# Altium schematic symbol library SoC.SchLib: 3 symbols
Pins are listed as number, name and electrical type; pins without a type are passive.

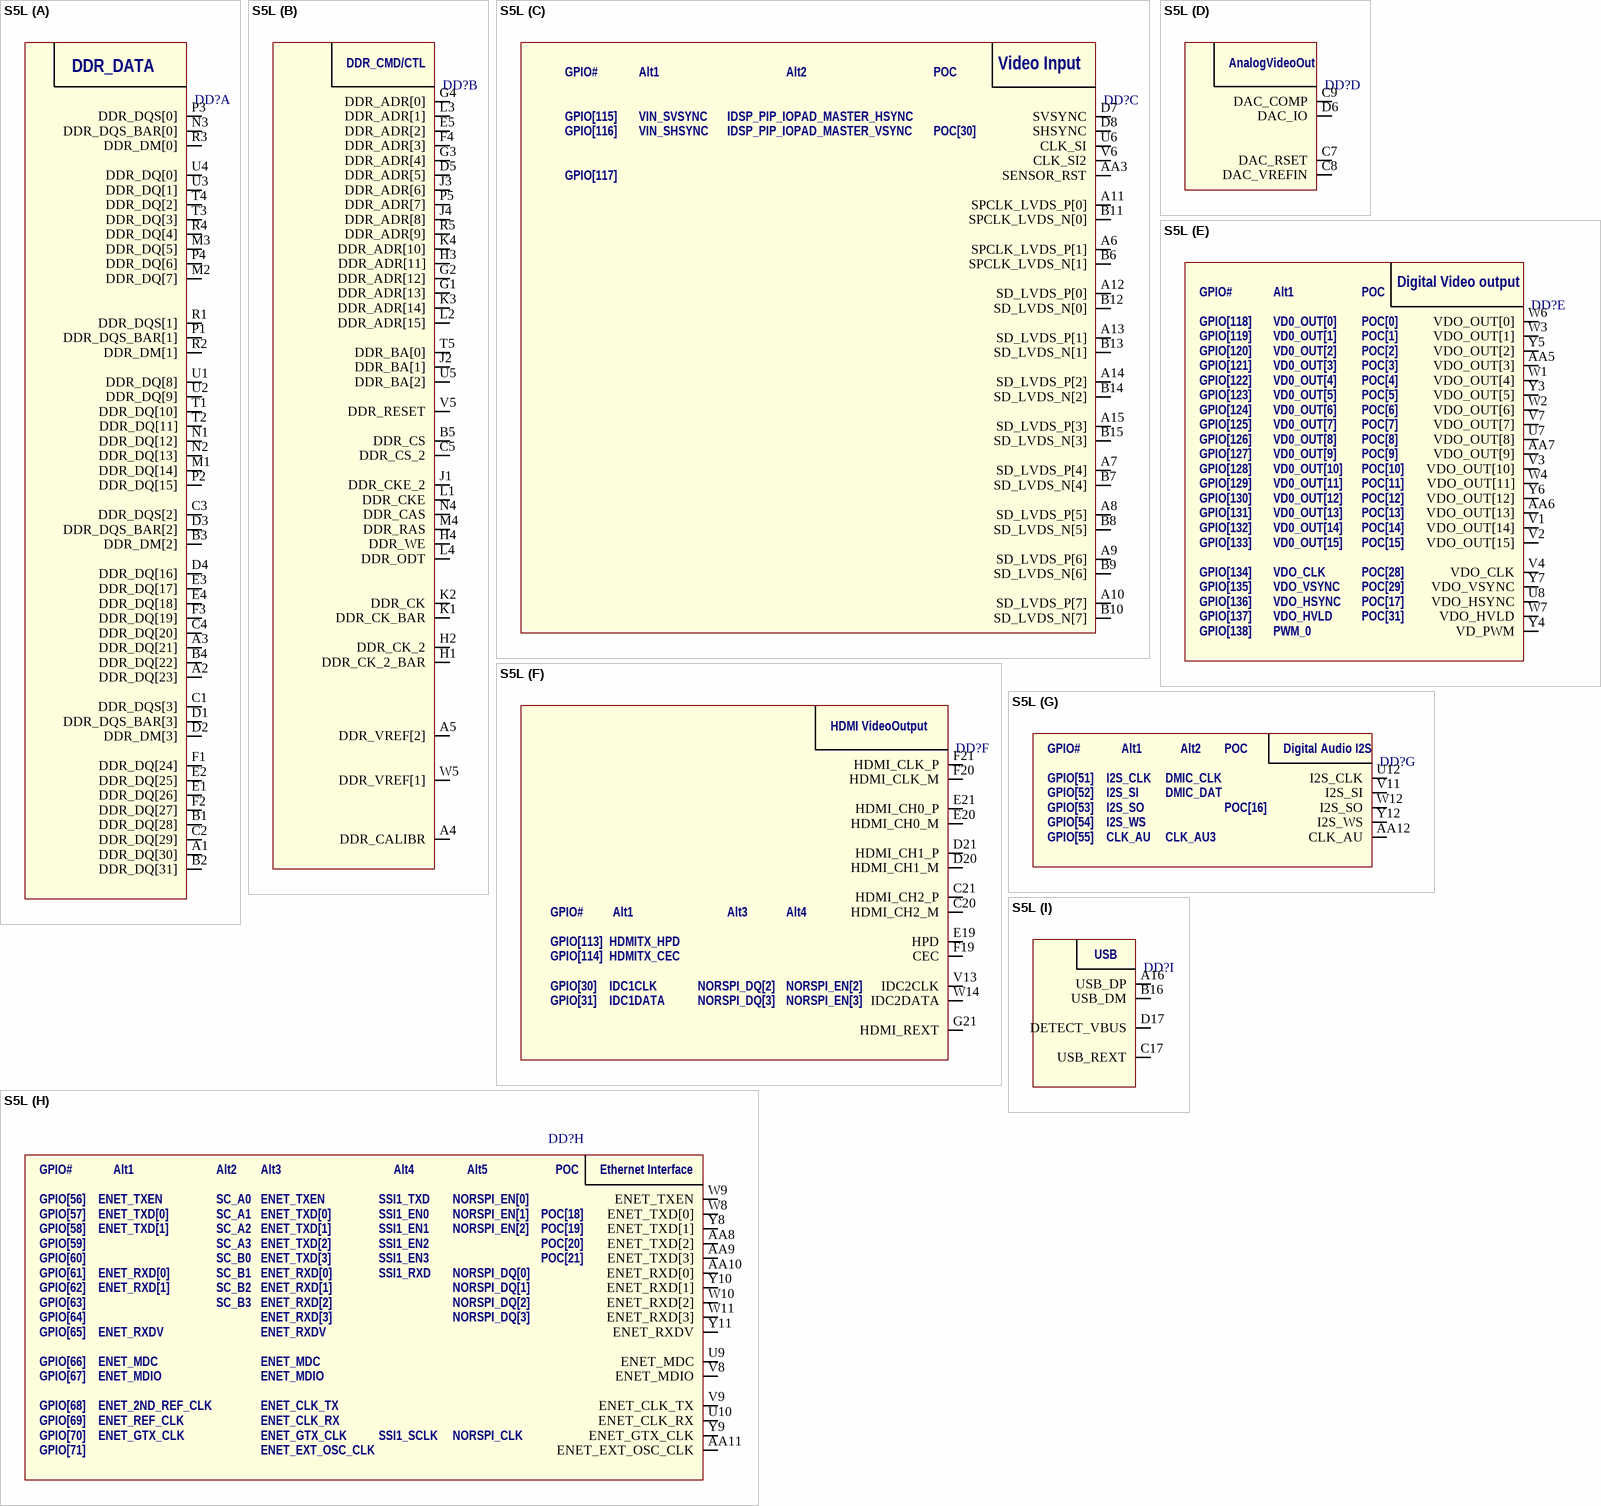
[diagram p0: symbol S5L]

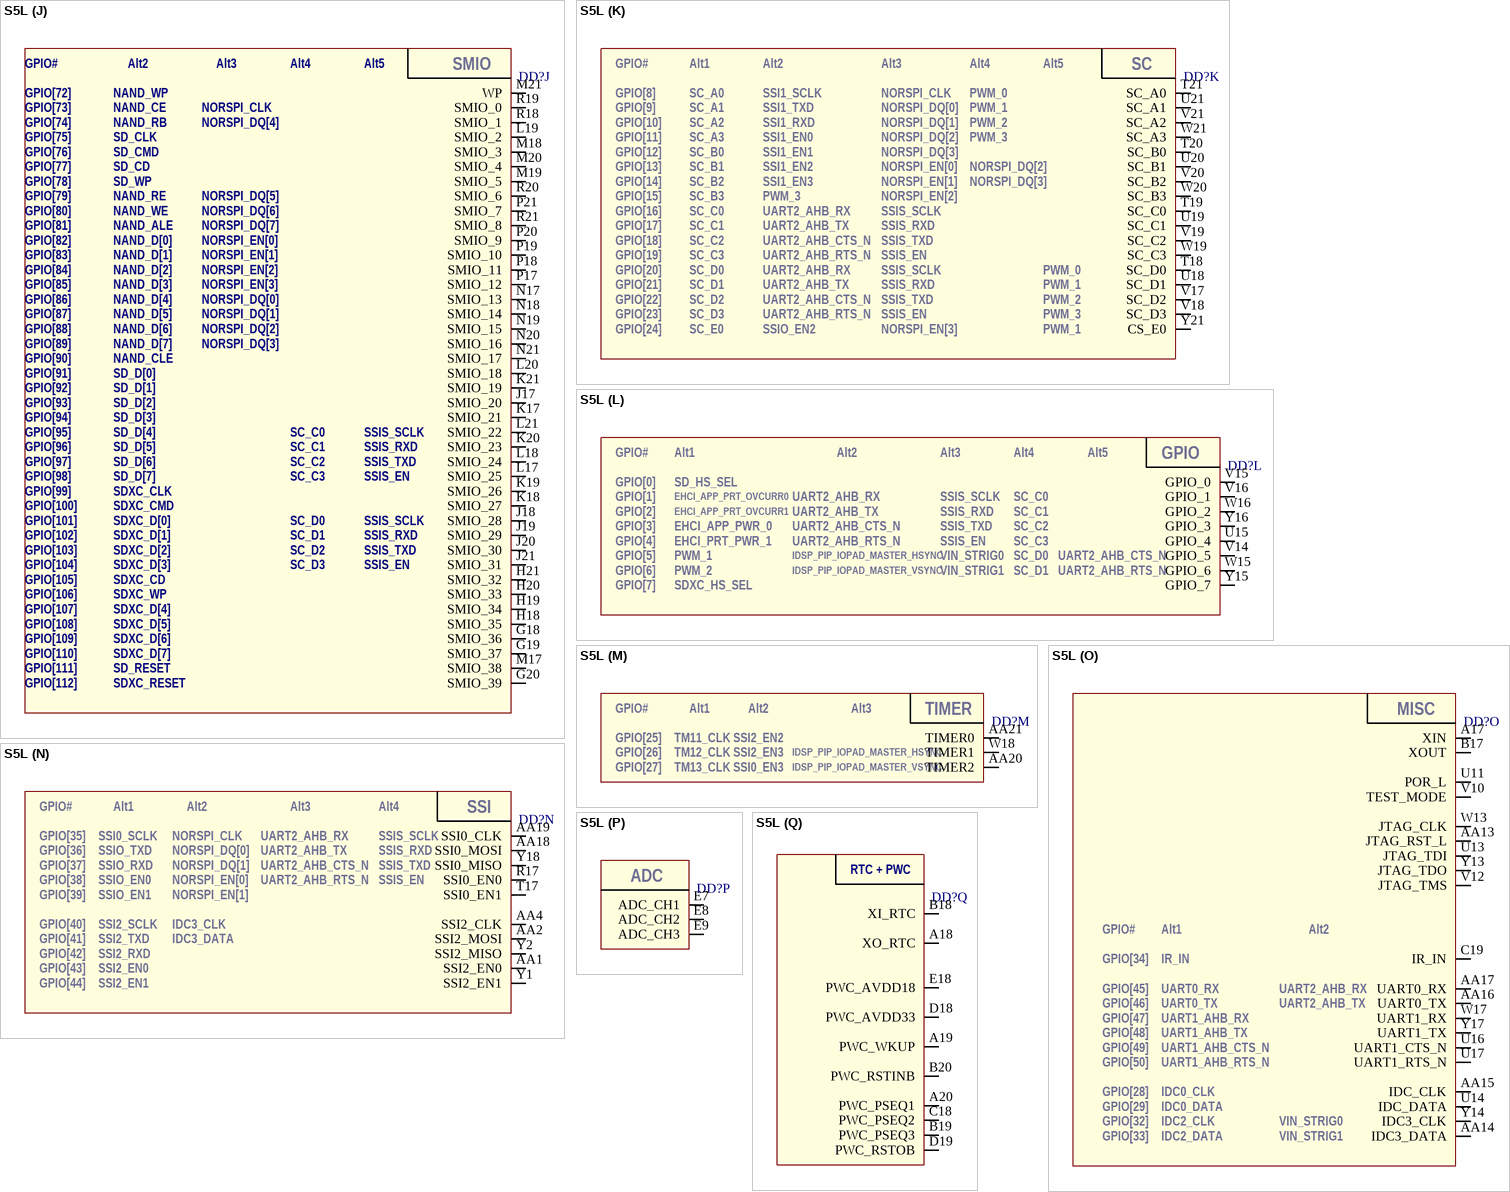
[diagram p1: symbol S5L]

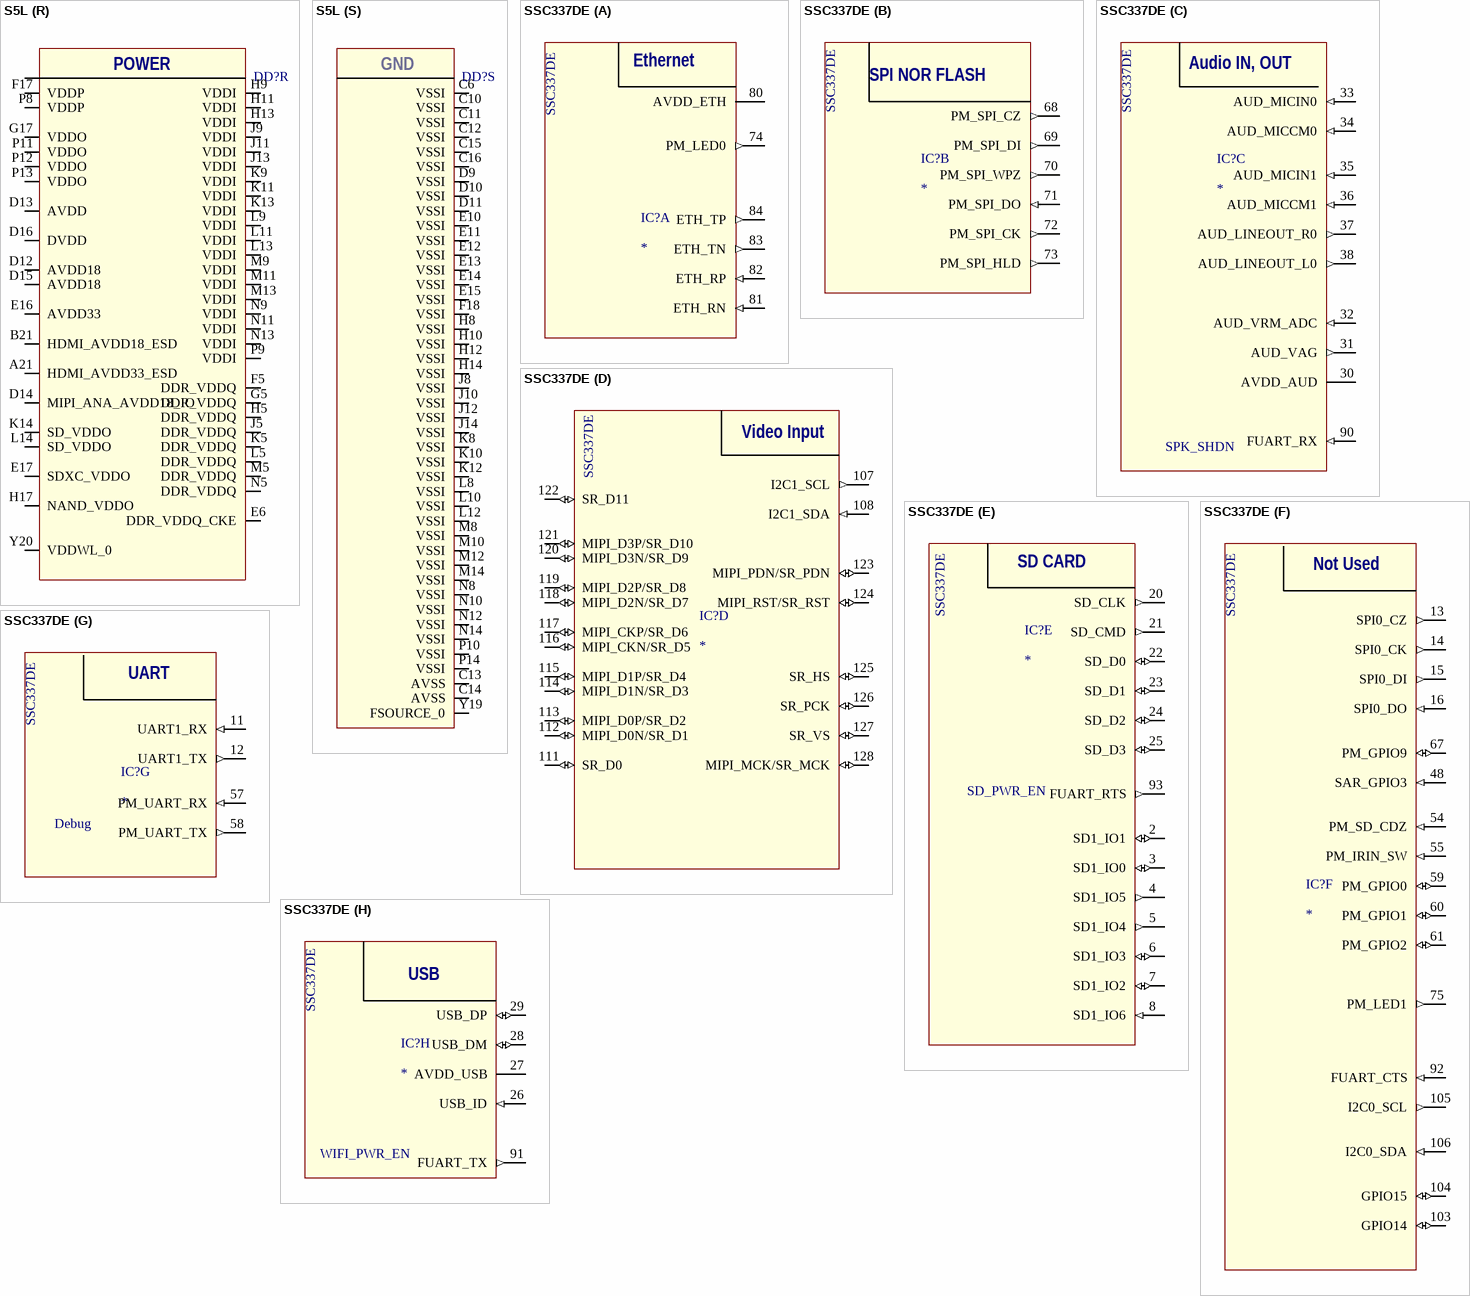
[diagram p2: symbols S5L to SSC337DE]

## S5L
designator DD?
Ambarella SoC S5L
footprint BGA369C65P21X21_1400X1400X130 (BGA, 369-Leads, Body 14,00x14,00mmx1,30mm, Pitch 0,65mm)
part A pins: A1 DDR_DQ[30] "Bi-directional data BUS", A2 DDR_DQ[23] "Bi-directional data BUS", A3 DDR_DQ[21] "Bi-directional data BUS", B1 DDR_DQ[28] "Bi-directional data BUS", B2 DDR_DQ[31] "Bi-directional data BUS", B3 DDR_DM[2] "data write mask", B4 DDR_DQ[22] "Bi-directional data BUS", C1 DDR_DQS[3] "data strobe", C2 DDR_DQ[29] "Bi-directional data BUS", C3 DDR_DQS[2] "data strobe", C4 DDR_DQ[20] "Bi-directional data BUS", D1 DDR_DQS_BAR[3] "data strobe diff pair", D2 DDR_DM[3] "data write mask", D3 DDR_DQS_BAR[2] "data strobe diff pair", D4 DDR_DQ[16] "Bi-directional data BUS", E1 DDR_DQ[26] "Bi-directional data BUS", E2 DDR_DQ[25] "Bi-directional data BUS", E3 DDR_DQ[17] "Bi-directional data BUS", E4 DDR_DQ[18] "Bi-directional data BUS", F1 DDR_DQ[24] "Bi-directional data BUS", F2 DDR_DQ[27] "Bi-directional data BUS", F3 DDR_DQ[19] "Bi-directional data BUS", M1 DDR_DQ[14] "Bi-directional data BUS", M2 DDR_DQ[7] "Bi-directional data BUS", M3 DDR_DQ[5] "Bi-directional data BUS", N1 DDR_DQ[12] "Bi-directional data BUS", N2 DDR_DQ[13] "Bi-directional data BUS", N3 DDR_DQS_BAR[0] "data strobe diff pair", P1 DDR_DQS_BAR[1] "data strobe diff pair", P2 DDR_DQ[15] "Bi-directional data BUS", P3 DDR_DQS[0] "data strobe", P4 DDR_DQ[6] "Bi-directional data BUS", R1 DDR_DQS[1] "data strobe", R2 DDR_DM[1] "data write mask", R3 DDR_DM[0] "data write mask", R4 DDR_DQ[4] "Bi-directional data BUS", T1 DDR_DQ[10] "Bi-directional data BUS", T2 DDR_DQ[11] "Bi-directional data BUS", T3 DDR_DQ[3] "Bi-directional data BUS", T4 DDR_DQ[2] "Bi-directional data BUS", U1 DDR_DQ[8] "Bi-directional data BUS", U2 DDR_DQ[9] "Bi-directional data BUS", U3 DDR_DQ[1] "Bi-directional data BUS", U4 DDR_DQ[0] "Bi-directional data BUS"
part B pins: A4 DDR_CALIBR "ZQ calibration", A5 DDR_VREF[2] "refrence voltage", B5 DDR_CS "chip select for die2", C5 DDR_CS_2 "chip select for die 2", D5 DDR_ADR[5] "Addres for row (RAS)and column (CAS) strobe", E5 DDR_ADR[2] "Addres for row (RAS)and column (CAS) strobe", F4 DDR_ADR[3] "Addres for row (RAS)and column (CAS) strobe", G1 DDR_ADR[13] "Addres for row (RAS)and column (CAS) strobe", G2 DDR_ADR[12] "Addres for row (RAS)and column (CAS) strobe", G3 DDR_ADR[4] "Addres for row (RAS)and column (CAS) strobe", G4 DDR_ADR[0] "Addres for row (RAS)and column (CAS) strobe", H1 DDR_CK_2_BAR "DDR_Ck2 and DDR_Ck_BAR2 are diff clock", H2 DDR_CK_2 "DRAM clock per SDRAM", H3 DDR_ADR[11] "Addres for row (RAS)and column (CAS) strobe", H4 DDR_WE "Write enable", J1 DDR_CKE_2 "clock enable for 2nd die", J2 DDR_BA[1] "Bank address", J3 DDR_ADR[6] "Addres for row (RAS)and column (CAS) strobe", J4 DDR_ADR[8] "Addres for row (RAS)and column (CAS) strobe", K1 DDR_CK_BAR "DDR_CK and DDR_CK_BAR are diff clock", K2 DDR_CK "DRAM clock per SDRAM", K3 DDR_ADR[14] "Addres for row (RAS)and column (CAS) strobe", K4 DDR_ADR[10] "Addres for row (RAS)and column (CAS) strobe", L1 DDR_CKE "clock enable", L2 DDR_ADR[15] "Addres for row (RAS)and column (CAS) strobe", L3 DDR_ADR[1] "Addres for row (RAS)and column (CAS) strobe", L4 DDR_ODT "SDRAM on-die termination control sign", M4 DDR_RAS "Row addresstrobe", N4 DDR_CAS "column addres strobe strobe", P5 DDR_ADR[7] "Addres for row (RAS)and column (CAS) strobe", R5 DDR_ADR[9] "Addres for row (RAS)and column (CAS) strobe", T5 DDR_BA[0] "Bank address", U5 DDR_BA[2] "Bank address", V5 DDR_RESET "DDR3 Async. reset", W5 DDR_VREF[1] "refrence voltage"
part C pins: A6 SPCLK_LVDS_P[1] "Sensor pixel clock", A7 SD_LVDS_P[4] "sensor data", A8 SD_LVDS_P[5] "sensor data", A9 SD_LVDS_P[6] "sensor data", A10 SD_LVDS_P[7] "sensor data", A11 SPCLK_LVDS_P[0] "Sensor pixel clock", A12 SD_LVDS_P[0] "sensor data", A13 SD_LVDS_P[1] "sensor data", A14 SD_LVDS_P[2] "sensor data", A15 SD_LVDS_P[3] "sensor data", AA3 SENSOR_RST, B6 SPCLK_LVDS_N[1] "Sensor pixel clock", B7 SD_LVDS_N[4] "sensor data", B8 SD_LVDS_N[5] "sensor data", B9 SD_LVDS_N[6] "sensor data", B10 SD_LVDS_N[7] "sensor data", B11 SPCLK_LVDS_N[0] "Sensor pixel clock", B12 SD_LVDS_N[0] "sensor data", B13 SD_LVDS_N[1] "sensor data", B14 SD_LVDS_N[2] "sensor data", B15 SD_LVDS_N[3] "sensor data", D7 SVSYNC "V-sync", D8 SHSYNC "H_sync", U6 CLK_SI "Sensor master clock output", V6 CLK_SI2 "Sensor master clock output"
part D pins: C7 DAC_RSET "Refrence resistor", C8 DAC_VREFIN "Voltage refrence input", C9 DAC_COMP "Compensation pin", D6 DAC_IO "Composite CVBS output"
part E pins: AA5 VDO_OUT[3] "Video ouput data", AA6 VDO_OUT[13] "Video ouput data", AA7 VDO_OUT[9] "Video ouput data", U7 VDO_OUT[8] "Video ouput data", U8 VDO_HSYNC "H sync signal", V1 VDO_OUT[14] "Video ouput data", V2 VDO_OUT[15] "Video ouput data", V3 VDO_OUT[10] "Video ouput data", V4 VDO_CLK "Video Clock output", V7 VDO_OUT[7] "Video ouput data", W1 VDO_OUT[4] "Video ouput data", W2 VDO_OUT[6] "Video ouput data", W3 VDO_OUT[1] "Video ouput data", W4 VDO_OUT[11] "Video ouput data", W6 VDO_OUT[0] "Video ouput data", W7 VDO_HVLD "video output valid signal", Y3 VDO_OUT[5] "Video ouput data", Y4 VD_PWM, Y5 VDO_OUT[2] "Video ouput data", Y6 VDO_OUT[12] "Video ouput data", Y7 VDO_VSYNC "V sync signal"
part F pins: C20 HDMI_CH2_M "data output(open drain)", C21 HDMI_CH2_P "data output(open drain)", D20 HDMI_CH1_M "data output(open drain)", D21 HDMI_CH1_P "data output(open drain)", E19 HPD "Hot plug detect", E20 HDMI_CH0_M "data output(open drain)", E21 HDMI_CH0_P "data output(open drain)", F19 CEC "Consumer electronics Control pin", F20 HDMI_CLK_M "data clock", F21 HDMI_CLK_P "data clock", G21 HDMI_REXT "Refrence resistor", V13 IDC2CLK "HDMI analog power", W14 IDC2DATA "HDMI analog power"
part G pins: AA12 CLK_AU "Master clock", U12 I2S_CLK "I2S bit clock", V11 I2S_SI "I2S serial data in", W12 I2S_SO "I2S serial data out", Y12 I2S_WS "I2S word select"
part H pins: AA8 ENET_TXD[2] "Transmit data", AA9 ENET_TXD[3] "Transmit data", AA10 ENET_RXD[0] "Recive data", AA11 ENET_EXT_OSC_CLK "Ethernet external osc clock", U9 ENET_MDC "MII Clock", U10 ENET_CLK_RX "Refrence clock", V8 ENET_MDIO "MII data bus", V9 ENET_CLK_TX "Transmit clock", W8 ENET_TXD[0] "Transmit data", W9 ENET_TXEN, W10 ENET_RXD[2] "Recive data", W11 ENET_RXD[3] "Recive data", Y8 ENET_TXD[1] "Transmit data", Y9 ENET_GTX_CLK "Ethernet clock", Y10 ENET_RXD[1] "Recive data", Y11 ENET_RXDV "Recive data"
part I pins: A16 USB_DP "USB data", B16 USB_DM "USB data", C17 USB_REXT "USB refrence resistor", D17 DETECT_VBUS "USB slave bus detect"
part J pins: G18 SMIO_36, G19 SMIO_37, G20 SMIO_39, H18 SMIO_35, H19 SMIO_34, H20 SMIO_33, H21 SMIO_32, J17 SMIO_20, J18 SMIO_28, J19 SMIO_29, J20 SMIO_30, J21 SMIO_31, K17 SMIO_21, K18 SMIO_27, K19 SMIO_26, K20 SMIO_23, K21 SMIO_19, L17 SMIO_25, L18 SMIO_24, L19 SMIO_2 "SD0 clock", L20 SMIO_18, L21 SMIO_22, M17 SMIO_38, M18 SMIO_3 "SD0 command", M19 SMIO_5 "SD0 write protect", M20 SMIO_4 "SD0 card detect", M21 WP, N17 SMIO_13 "NAND data", N18 SMIO_14 "NAND data", N19 SMIO_15 "NAND data", N20 SMIO_16 "NAND data", N21 SMIO_17 "NAND cmd latch enable", P17 SMIO_12 "NAND data", P18 SMIO_11 "NAND data", P19 SMIO_10 "NAND data", P20 SMIO_9 "NAND data", P21 SMIO_7 "NAND write enable", R18 SMIO_1 "NAND ready", R19 SMIO_0 "NAND chip enable", R20 SMIO_6 "NAND read enable", R21 SMIO_8 "NAND address latch enable"
part K pins: T18 SC_D0, T19 SC_C0, T20 SC_B0, T21 SC_A0, U18 SC_D1, U19 SC_C1, U20 SC_B1, U21 SC_A1, V17 SC_D2, V18 SC_D3, V19 SC_C2, V20 SC_B2, V21 SC_A2, W19 SC_C3, W20 SC_B3, W21 SC_A3, Y21 CS_E0
part L pins: U15 GPIO_4, V14 GPIO_5, V15 GPIO_0, V16 GPIO_1, W15 GPIO_6, W16 GPIO_2, Y15 GPIO_7, Y16 GPIO_3
part M pins: AA20 TIMER2, AA21 TIMER0, W18 TIMER1
part N pins: AA1 SSI2_EN0, AA2 SSI2_MOSI, AA4 SSI2_CLK, AA18 SSI0_MOSI, AA19 SSI0_CLK, R17 SSI0_EN0, T17 SSI0_EN1, Y1 SSI2_EN1, Y2 SSI2_MISO, Y18 SSI0_MISO
part O pins: A17 XIN, AA13 JTAG_RST_L, AA14 IDC3_DATA, AA15 IDC_CLK, AA16 UART0_TX, AA17 UART0_RX, B17 XOUT, C19 IR_IN, U11 POR_L, U13 JTAG_TDI, U14 IDC_DATA, U16 UART1_CTS_N, U17 UART1_RTS_N, V10 TEST_MODE, V12 JTAG_TMS, W13 JTAG_CLK, W17 UART1_RX, Y13 JTAG_TDO, Y14 IDC3_CLK, Y17 UART1_TX
part P pins: E7 ADC_CH1, E8 ADC_CH2, E9 ADC_CH3
part Q pins: A18 XO_RTC, A19 PWC_WKUP, A20 PWC_PSEQ1, B18 XI_RTC, B19 PWC_PSEQ3, B20 PWC_RSTINB, C18 PWC_PSEQ2, D18 PWC_AVDD33, D19 PWC_RSTOB, E18 PWC_AVDD18
part R pins: A21 HDMI_AVDD33_ESD, B21 HDMI_AVDD18_ESD, D12 AVDD18, D13 AVDD, D14 MIPI_ANA_AVDD18_IO, D15 AVDD18, D16 DVDD, E6 DDR_VDDQ_CKE (power) "power for DDR_CKE and DDR_RESET pin", E16 AVDD33, E17 SDXC_VDDO, F5 DDR_VDDQ (power) "DDR digital I/O powersyplply", F17 VDDP, G5 DDR_VDDQ (power) "DDR digital I/O powersyplply", G17 VDDO, H5 DDR_VDDQ (power) "DDR digital I/O powersyplply", H9 VDDI, H11 VDDI, H13 VDDI, H17 NAND_VDDO, J5 DDR_VDDQ (power) "DDR digital I/O powersyplply", J9 VDDI, J11 VDDI, J13 VDDI, K5 DDR_VDDQ (power) "DDR digital I/O powersyplply", K9 VDDI, K11 VDDI, K13 VDDI, K14 SD_VDDO, L5 DDR_VDDQ (power) "DDR digital I/O powersyplply", L9 VDDI, L11 VDDI, L13 VDDI, L14 SD_VDDO, M5 DDR_VDDQ (power) "DDR digital I/O powersyplply", M9 VDDI, M11 VDDI, M13 VDDI, N5 DDR_VDDQ (power) "DDR digital I/O powersyplply", N9 VDDI, N11 VDDI, N13 VDDI, P8 VDDP, P9 VDDI, P11 VDDO, P12 VDDO, P13 VDDO, Y20 VDDWL_0
part S pins: C6 VSSI "1", C10 VSSI "2", C11 VSSI "3", C12 VSSI "4", C13 AVSS "41", C14 AVSS "42", C15 VSSI "5", C16 VSSI "6", D9 VSSI "7", D10 VSSI "8", D11 VSSI "9", E10 VSSI "10", E11 VSSI "11", E12 VSSI "12", E13 VSSI "13", E14 VSSI "14", E15 VSSI "15", F18 VSSI "16", H8 VSSI "17", H10 VSSI "18", H12 VSSI "19", H14 VSSI "20", J8 VSSI "21", J10 VSSI "22", J12 VSSI "23", J14 VSSI "24", K8 VSSI "25", K10 VSSI "26", K12 VSSI "27", L8 VSSI "28", L10 VSSI "29", L12 VSSI "30", M8 VSSI "31", M10 VSSI "32", M12 VSSI "33", M14 VSSI "34", N8 VSSI "35", N10 VSSI "36", N12 VSSI "37", N14 VSSI "38", P10 VSSI "39", P14 VSSI "40", Y19 FSOURCE_0 "43"
part A text: DDR_DATA
part B text: DDR_CMD/CTL
part C text: Video Input; GPIO#; Alt1; Alt2; POC; GPIO[115]; VIN_SVSYNC; IDSP_PIP_IOPAD_MASTER_HSYNC; GPIO[116]; VIN_SHSYNC; IDSP_PIP_IOPAD_MASTER_VSYNC; POC[30]; GPIO[117]
part D text: AnalogVideoOut
part E text: GPIO#; Alt1; POC; Digital Video output; GPIO[118]; VD0_OUT[0]; POC[0]; GPIO[119]; VD0_OUT[1]; POC[1]; GPIO[120]; VD0_OUT[2]; POC[2]; GPIO[121]; VD0_OUT[3]; POC[3]; GPIO[122]; VD0_OUT[4]; POC[4]; GPIO[123]; VD0_OUT[5]; POC[5]; GPIO[124]; VD0_OUT[6]; POC[6]; GPIO[125]; VD0_OUT[7]; POC[7]; GPIO[126]; VD0_OUT[8]; POC[8]; GPIO[127]; VD0_OUT[9]; POC[9]; GPIO[128]; VD0_OUT[10]; POC[10]; GPIO[129]; VD0_OUT[11]; POC[11]; GPIO[130]; VD0_OUT[12]; POC[12]; GPIO[131]; VD0_OUT[13]; POC[13]; GPIO[132]; VD0_OUT[14]; POC[14]; GPIO[133]; VD0_OUT[15]; POC[15]; GPIO[134]; POC[28]; GPIO[135]; POC[29]; GPIO[136]; POC[17]; GPIO[137]; POC[31]; GPIO[138]; PWM_0
part F text: HDMI VideoOutput; GPIO#; Alt1; Alt3; Alt4; GPIO[113]; HDMITX_HPD; GPIO[114]; HDMITX_CEC; GPIO[30]; IDC1CLK; NORSPI_DQ[2]; NORSPI_EN[2]; GPIO[31]; IDC1DATA; NORSPI_DQ[3]; NORSPI_EN[3]
part G text: GPIO#; Alt1; Alt2; POC; Digital Audio I2S; GPIO[51]; DMIC_CLK; GPIO[52]; DMIC_DAT; GPIO[53]; POC[16]; GPIO[54]; GPIO[55]; CLK_AU3
part H text: GPIO#; Alt1; Alt2; Alt3; Alt4; Alt5; POC; Ethernet Interface; GPIO[56]; SSI1_TXD; NORSPI_EN[0]; GPIO[57]; SSI1_EN0; NORSPI_EN[1]; POC[18]; GPIO[58]; SSI1_EN1; NORSPI_EN[2]; POC[19]; GPIO[59]; SSI1_EN2; POC[20]; GPIO[60]; SSI1_EN3; POC[21]; GPIO[61]; SSI1_RXD; NORSPI_DQ[0]; GPIO[62]; NORSPI_DQ[1]; GPIO[63]; NORSPI_DQ[2]; GPIO[64]; NORSPI_DQ[3]; GPIO[65]; GPIO[66]; GPIO[67]; GPIO[68]; ENET_2ND_REF_CLK; GPIO[69]; ENET_REF_CLK; GPIO[70]; SSI1_SCLK; NORSPI_CLK; GPIO[71]
part I text: USB
part J text: GPIO#; Alt2; Alt3; Alt4; Alt5; SMIO; GPIO[72]; NAND_WP; GPIO[73]; NAND_CE; NORSPI_CLK; GPIO[74]; NAND_RB; NORSPI_DQ[4]; GPIO[75]; SD_CLK; GPIO[76]; SD_CMD; GPIO[77]; SD_CD; GPIO[78]; SD_WP; GPIO[79]; NAND_RE; NORSPI_DQ[5]; GPIO[80]; NAND_WE; NORSPI_DQ[6]; GPIO[81]; NAND_ALE; NORSPI_DQ[7]; GPIO[82]; NAND_D[0]; NORSPI_EN[0]; GPIO[83]; NAND_D[1]; NORSPI_EN[1]; GPIO[84]; NAND_D[2]; NORSPI_EN[2]; GPIO[85]; NAND_D[3]; NORSPI_EN[3]; GPIO[86]; NAND_D[4]; NORSPI_DQ[0]; GPIO[87]; NAND_D[5]; NORSPI_DQ[1]; GPIO[88]; NAND_D[6]; NORSPI_DQ[2]; GPIO[89]; NAND_D[7]; NORSPI_DQ[3]; GPIO[90]; NAND_CLE; GPIO[91]; SD_D[0]; GPIO[92]; SD_D[1]; GPIO[93]; SD_D[2]; GPIO[94]; SD_D[3]; GPIO[95]; SD_D[4]; SSIS_SCLK; GPIO[96]; SD_D[5]; SSIS_RXD; GPIO[97]; SD_D[6]; SSIS_TXD; GPIO[98]; SD_D[7]; SSIS_EN; GPIO[99]; SDXC_CLK; GPIO[100]; SDXC_CMD; GPIO[101]; SDXC_D[0]; GPIO[102]; SDXC_D[1]; GPIO[103]; SDXC_D[2]; GPIO[104]; SDXC_D[3]; GPIO[105]; SDXC_CD; GPIO[106]; SDXC_WP; GPIO[107]; SDXC_D[4]; GPIO[108]; SDXC_D[5]; GPIO[109]; SDXC_D[6]; GPIO[110]; SDXC_D[7]; GPIO[111]; SD_RESET; GPIO[112]; SDXC_RESET
part K text: GPIO#; Alt1; Alt2; Alt3; Alt4; Alt5; SC; GPIO[8]; SSI1_SCLK; NORSPI_CLK; PWM_0; GPIO[9]; SSI1_TXD; NORSPI_DQ[0]; PWM_1; GPIO[10]; SSI1_RXD; NORSPI_DQ[1]; PWM_2; GPIO[11]; SSI1_EN0; NORSPI_DQ[2]; PWM_3; GPIO[12]; SSI1_EN1; NORSPI_DQ[3]; GPIO[13]; SSI1_EN2; NORSPI_EN[0]; GPIO[14]; SSI1_EN3; NORSPI_EN[1]; GPIO[15]; NORSPI_EN[2]; GPIO[16]; UART2_AHB_RX; SSIS_SCLK; GPIO[17]; UART2_AHB_TX; SSIS_RXD; GPIO[18]; UART2_AHB_CTS_N; SSIS_TXD; GPIO[19]; UART2_AHB_RTS_N; SSIS_EN; GPIO[20]; GPIO[21]; GPIO[22]; GPIO[23]; GPIO[24]; SC_E0; SSIO_EN2; NORSPI_EN[3]
part L text: GPIO#; Alt1; Alt2; Alt3; Alt4; Alt5; GPIO; GPIO[0]; SD_HS_SEL; GPIO[1]; EHCI_APP_PRT_OVCURR0; UART2_AHB_RX; SSIS_SCLK; GPIO[2]; EHCI_APP_PRT_OVCURR1; UART2_AHB_TX; SSIS_RXD; GPIO[3]; EHCI_APP_PWR_0; UART2_AHB_CTS_N; SSIS_TXD; GPIO[4]; EHCI_PRT_PWR_1; UART2_AHB_RTS_N; SSIS_EN; GPIO[5]; PWM_1; IDSP_PIP_IOPAD_MASTER_HSYNC; VIN_STRIG0; GPIO[6]; PWM_2; IDSP_PIP_IOPAD_MASTER_VSYNC; VIN_STRIG1; GPIO[7]; SDXC_HS_SEL
part M text: GPIO#; Alt1; Alt2; Alt3; TIMER; GPIO[25]; TM11_CLK; SSI2_EN2; GPIO[26]; TM12_CLK; SSI2_EN3; IDSP_PIP_IOPAD_MASTER_HSYNC; GPIO[27]; TM13_CLK; SSI0_EN3; IDSP_PIP_IOPAD_MASTER_VSYNC
part N text: GPIO#; Alt1; Alt2; Alt3; Alt4; SSI; GPIO[35]; SSI0_SCLK; NORSPI_CLK; UART2_AHB_RX; SSIS_SCLK; GPIO[36]; SSIO_TXD; NORSPI_DQ[0]; UART2_AHB_TX; SSIS_RXD; GPIO[37]; SSIO_RXD; NORSPI_DQ[1]; UART2_AHB_CTS_N; SSIS_TXD; GPIO[38]; SSIO_EN0; NORSPI_EN[0]; UART2_AHB_RTS_N; SSIS_EN; GPIO[39]; SSIO_EN1; NORSPI_EN[1]; GPIO[40]; SSI2_SCLK; GPIO[41]; SSI2_TXD; GPIO[42]; SSI2_RXD; GPIO[43]; GPIO[44]
part O text: MISC; GPIO#; Alt1; Alt2; GPIO[34]; GPIO[45]; UART2_AHB_RX; GPIO[46]; UART2_AHB_TX; GPIO[47]; UART1_AHB_RX; GPIO[48]; UART1_AHB_TX; GPIO[49]; UART1_AHB_CTS_N; GPIO[50]; UART1_AHB_RTS_N; GPIO[28]; IDC0_CLK; GPIO[29]; IDC0_DATA; GPIO[32]; IDC2_CLK; VIN_STRIG0; GPIO[33]; IDC2_DATA; VIN_STRIG1
part P text: ADC
part Q text: RTC + PWC
part R text: POWER
part S text: GND

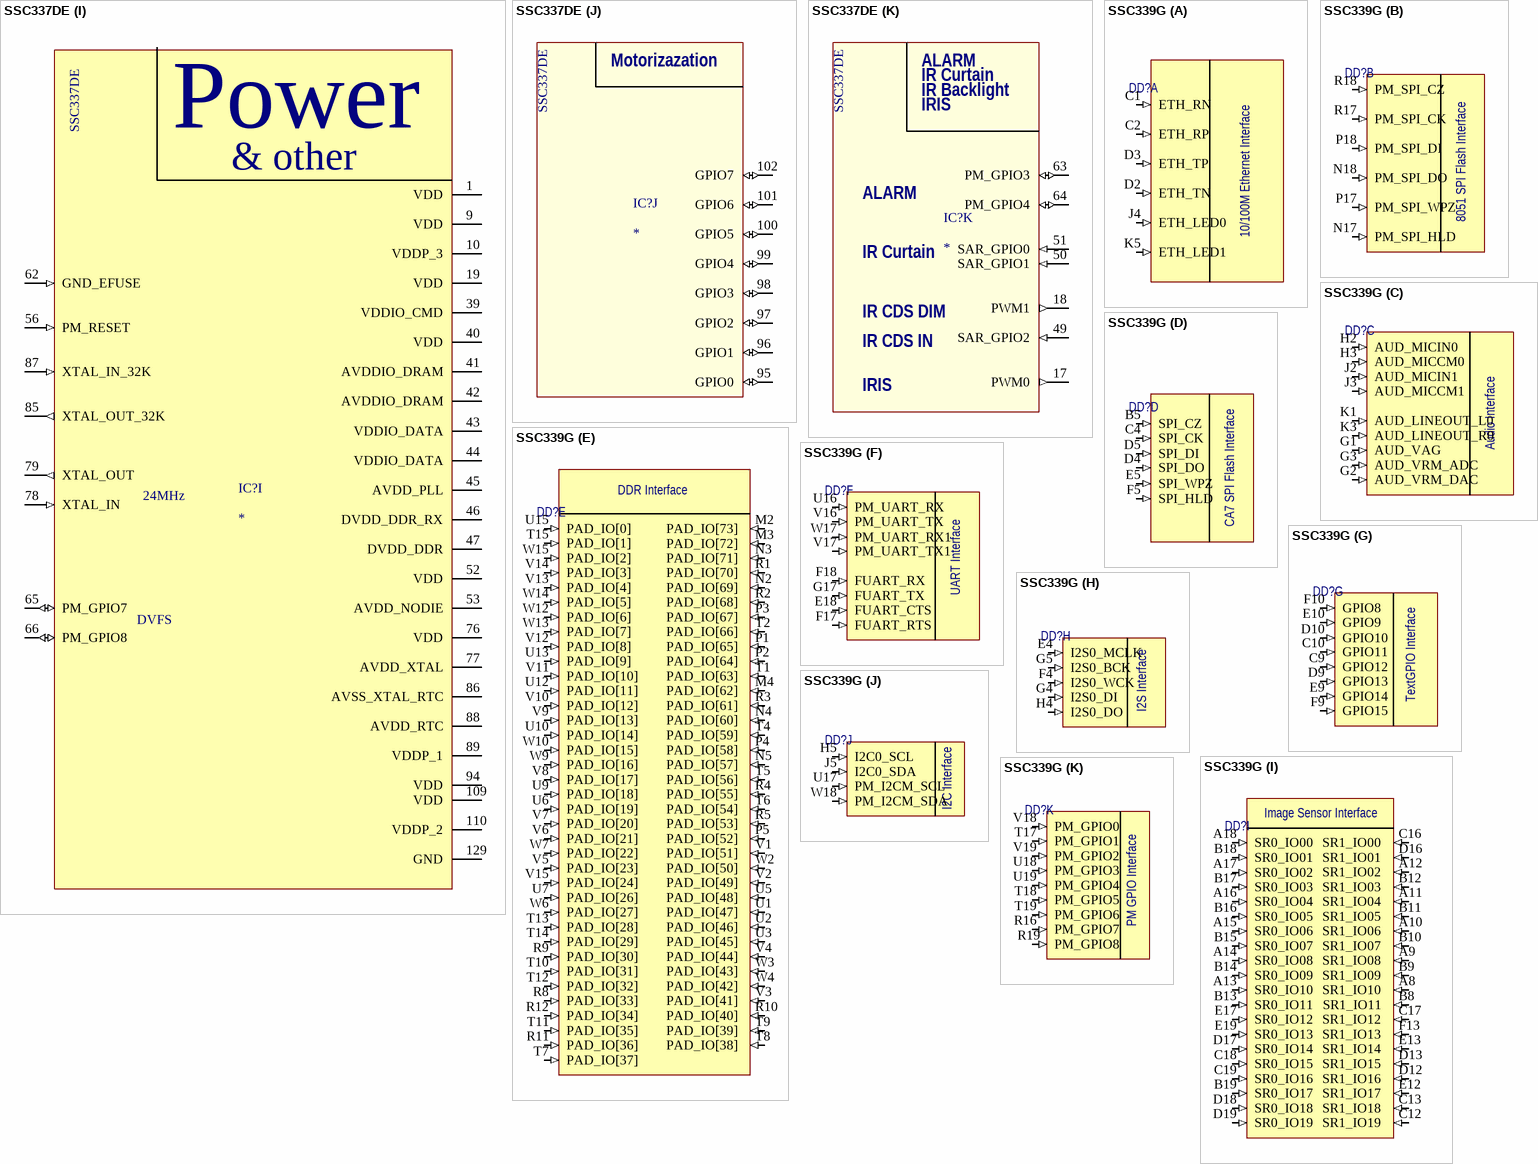
[diagram p3: symbols SSC337DE to SSC339G]

## SSC337DE
designator IC?
SigmaStar SoC
footprint QFN35P1230X1230X90_HS-129M (QFN, 128-Leads, Body 12,30x12,30mm, Pitch 0,35mm, Thermal Pad 9,50x6,20mm, IPC Low Density)
part A pins: 74 PM_LED0 (out) "10/100M Ethernet LED0 Control Driven Active When Linked", 80 AVDD_ETH (power) "Analog Power for Ethernet", 81 ETH_RN (in) "10/100M Ethernet Differential Pair of Receiver Signal Negative", 82 ETH_RP (in) "10/100M Ethernet Differential Pair of Receiver Signal Positive", 83 ETH_TN (out) "10/100M Ethernet Differential Pair of Transmitter Signal Negative", 84 ETH_TP (out) "10/100M Ethernet Differential Pair of Transmitter Signal Positive"
part B pins: 68 PM_SPI_CZ (out) "SPI Flash Chip Select (Active Low)", 69 PM_SPI_DI (out) "SPI Flash Serial Data To Device (MOSI)", 70 PM_SPI_WPZ (out) "SPI Flash Write Protect", 71 PM_SPI_DO (in) "SPI Flash Serial Data From Device (MISO)", 72 PM_SPI_CK (out) "SPI Flash Clock", 73 PM_SPI_HLD (out) "SPI Flash Hold"
part C pins: 30 AVDD_AUD (power) "Analog Power for Audio", 31 AUD_VAG (out) "Audio Reference Voltage from 1/2 AVDD_AUD", 32 AUD_VRM_ADC (in) "Audio Reference Voltage for ADC", 33 AUD_MICIN0 (in) "Audio Left Channel Microphone Positive Input", 34 AUD_MICCM0 (in) "Audio Left Channel Microphone Negative Input", 35 AUD_MICIN1 (in) "Audio Right Channel Microphone Positive Input", 36 AUD_MICCM1 (in) "Audio Right Channel Microphone Negative Input", 37 AUD_LINEOUT_R0 (out) "Audio Right Channel Line Output", 38 AUD_LINEOUT_L0 (out) "Audio Left Channel Line Output", 90 FUART_RX (in) "Fast UART Receive Data Input"
part D pins: 107 I2C1_SCL (out) "I2C 1 Master Mode I2C Clock (for Sensor)", 108 I2C1_SDA (in) "I2C 1 Master Mode I2C Data (for Sensor)", 111 SR_D0 (io) "Sensor General Purpose Input/Output 0", 112 MIPI_D0N/SR_D1 (io) "Sensor General Purpose Input/Output 1", 113 MIPI_D0P/SR_D2 (io) "Sensor General Purpose Input/Output 2", 114 MIPI_D1N/SR_D3 (io) "Sensor General Purpose Input/Output 3", 115 MIPI_D1P/SR_D4 (io) "Sensor General Purpose Input/Output 4", 116 MIPI_CKN/SR_D5 (io) "Sensor General Purpose Input/Output 5", 117 MIPI_CKP/SR_D6 (io) "Sensor General Purpose Input/Output 6", 118 MIPI_D2N/SR_D7 (io) "Sensor General Purpose Input/Output 7", 119 MIPI_D2P/SR_D8 (io) "Sensor General Purpose Input/Output 8", 120 MIPI_D3N/SR_D9 (io) "Sensor General Purpose Input/Output 9", 121 MIPI_D3P/SR_D10 (io) "Sensor General Purpose Input/Output 10", 122 SR_D11 (io) "Sensor General Purpose Input/Output 11", 123 MIPI_PDN/SR_PDN (io) "Sensor General Purpose Input/Output 12", 124 MIPI_RST/SR_RST (io) "Sensor General Purpose Input/Output 13", 125 SR_HS (io) "Sensor General Purpose Input/Output 14", 126 SR_PCK (io) "Sensor General Purpose Input/Output 15", 127 SR_VS (io) "Sensor General Purpose Input/Output 16", 128 MIPI_MCK/SR_MCK (io) "Sensor General Purpose Input/Output 17"
part E pins: 2 SD1_IO1 (io) "SDIO 2.0 Card Data Bus 1", 3 SD1_IO0 (io) "SDIO 2.0 Card Data Bus 0", 4 SD1_IO5 (out) "SDIO 2.0 Card Clock", 5 SD1_IO4 (out) "SDIO 2.0 Card Command", 6 SD1_IO3 (io) "SDIO 2.0 Card Data Bus 3", 7 SD1_IO2 (io) "SDIO 2.0 Card Data Bus 2", 8 SD1_IO6 (in) "SDIO 2.0 Card Detect (Active Low)", 20 SD_CLK (out) "SD 2.0 Clock", 21 SD_CMD (out) "SD 2.0 Command", 22 SD_D0 (io) "SD 2.0 Data Bus 0", 23 SD_D1 (io) "SD 2.0 Data Bus 1", 24 SD_D2 (io) "SD 2.0 Data Bus 2", 25 SD_D3 (io) "SD 2.0 Data Bus 3", 93 FUART_RTS (out) "Fast UART Request to Send"
part F pins: 13 SPI0_CZ (out) "Master SPI 0 Chip Select (Active Low)", 14 SPI0_CK (out) "Master SPI 0 Serial Clock", 15 SPI0_DI (out) "Master SPI 0 Serial Data To Device (MOSI)", 16 SPI0_DO (in) "Master SPI 0 Serial Data From Device (MISO)", 48 SAR_GPIO3 (in) "General Purpose Input/Output or Muxed to SARADC Input Channel 3", 54 PM_SD_CDZ (in) "Power Manage SD 2.0 Card Detect", 55 PM_IRIN_SW (in) "General Purpose Input/Output Software Mode Infrared Input from IR Receiver", 59 PM_GPIO0 (io) "Power Manage Group General Purpose Input/Output 0", 60 PM_GPIO1 (io) "Power Manage Group General Purpose Input/Output 1", 61 PM_GPIO2 (io) "Power Manage Group General Purpose Input/Output 2", 67 PM_GPIO9 (io) "Power Manage Group General Purpose Input/Output 9", 75 PM_LED1 (out) "10/100M Ethernet LED1 Control Driven Active When Linked in 100 Base-TX and Blinking When Transmitting or Receiving Data", 92 FUART_CTS (in) "Fast UART Clear to Send", 103 GPIO14 (io) "General Purpose Input/Output 14", 104 GPIO15 (io) "General Purpose Input/Output 15", 105 I2C0_SCL (out) "I2C 0 Master Mode I2C Clock", 106 I2C0_SDA (in) "I2C 0 Master Mode I2C Data"
part G pins: 11 UART1_RX (in) "UART 1 Receive Data Input", 12 UART1_TX (out) "UART 1 Transmit Data Output", 57 PM_UART_RX (in) "Debug UART Receive Data Input with Pull Up Resistor / Slave I2C Serial Clock", 58 PM_UART_TX (out) "Debug UART Transmit Data Output with Pull Up Resistor / Slave I2C Serial Data"
part H pins: 26 USB_ID (in) "USB 2.0 ID (High: Slave Mode, Low: Host Mode)", 27 AVDD_USB (power) "Analog Power for USB", 28 USB_DM (io) "USB 2.0 Differential Pair, Negative", 29 USB_DP (io) "USB 2.0 Differential Pair, Positive", 91 FUART_TX (out) "Fast UART Transmit Data Output"
part I pins: 1 VDD (power) "Digital Core Power", 9 VDD (power) "Digital Core Power", 10 VDDP_3 (power) "Digital Power for VDDP_3 Group", 19 VDD (power) "Digital Core Power", 39 VDDIO_CMD (power) "Analog Power for DDR CMD", 40 VDD (power) "Digital Core Power", 41 AVDDIO_DRAM (power) "Stack DRAM Power", 42 AVDDIO_DRAM (power) "Stack DRAM Power", 43 VDDIO_DATA (power) "Analog Power for DDR MCLK/DATA", 44 VDDIO_DATA (power) "Analog Power for DDR MCLK/DATA", 45 AVDD_PLL (power) "Analog Power for PLL", 46 DVDD_DDR_RX (power) "Digital Power for DDR RX", 47 DVDD_DDR (power) "Digital Power for DDR TX", 52 VDD (power) "Digital Core Power", 53 AVDD_NODIE (power) "Analog Power for PM", 56 PM_RESET (in) "System Reset (Active High)", 62 GND_EFUSE (in) "Power Source if eFuse is Burnt (Connected to Ground)", 65 PM_GPIO7 (io) "Power Manage Group General Purpose Input/Output 7", 66 PM_GPIO8 (io) "Power Manage Group General Purpose Input/Output 8", 76 VDD (power) "Digital Core Power", 77 AVDD_XTAL (power) "Analog Power for XTAL", 78 XTAL_IN (in) "24MHz Crystal Input", 79 XTAL_OUT (out) "24MHz Crystal Output", 85 XTAL_OUT_32K (out) "32.768KHz Crystal Output", 86 AVSS_XTAL_RTC "Analog Ground for RTC Crystal", 87 XTAL_IN_32K (in) "32.768KHz Crystal Input", 88 AVDD_RTC (power) "Analog Power for RTC", 89 VDDP_1 (power) "Digital Power for VDDP_1 Group", 94 VDD (power) "Digital Core Power", 109 VDD (power) "Digital Core Power", 110 VDDP_2 (power) "Digital Power for VDDP_2 Group (Sensor IO Power)", 129 GND "Digital Ground"
part J pins: 95 GPIO0 (io) "General Purpose Input/Output 0", 96 GPIO1 (io) "General Purpose Input/Output 1", 97 GPIO2 (io) "General Purpose Input/Output 2", 98 GPIO3 (io) "General Purpose Input/Output 3", 99 GPIO4 (io) "General Purpose Input/Output 4", 100 GPIO5 (io) "General Purpose Input/Output 5", 101 GPIO6 (io) "General Purpose Input/Output 6", 102 GPIO7 (io) "General Purpose Input/Output 7"
part K pins: 17 PWM0 (out) "PWM 0 Output", 18 PWM1 (out) "PWM 1 Output", 49 SAR_GPIO2 (in) "General Purpose Input/Output or Muxed to SARADC Input Channel 2", 50 SAR_GPIO1 (in) "General Purpose Input/Output or Muxed to SARADC Input Channel 1", 51 SAR_GPIO0 (in) "General Purpose Input/Output or Muxed to SARADC Input Channel 0", 63 PM_GPIO3 (io) "Power Manage Group General Purpose Input/Output 3", 64 PM_GPIO4 (io) "Power Manage Group General Purpose Input/Output 4"
part A text: Ethernet
part B text: SPI NOR FLASH
part C text: Audio IN, OUT; SPK_SHDN
part D text: Video Input
part E text: SD CARD; SD_PWR_EN
part F text: Not Used
part G text: UART; Debug
part H text: USB; WIFI_PWR_EN
part I text: Power; & other; 24MHz; DVFS
part J text: Motorizazation
part K text: ALARM; IR Curtain; IR Backlight; IRIS; IR CDS DIM; IR CDS IN

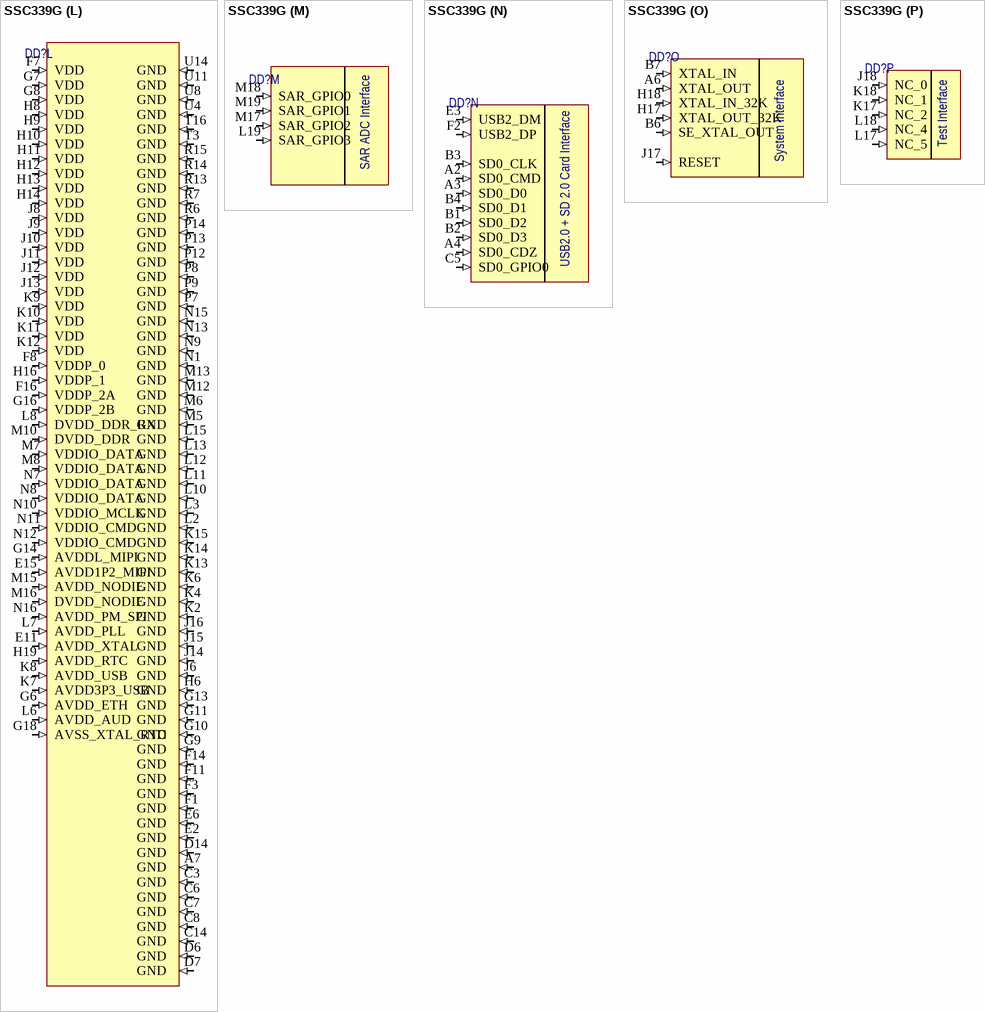
[diagram p4: symbol SSC339G]

## SSC339G
designator DD?
SigmStar SoC
footprint BGA307C65P19X19_1300X1300X156 (BGA, 307-Leads, Body 13,00x13,00mmx1,56mm, Pitch 0,65mm)
part A pins: C1  ETH_RN  (in) "10/100M Ethernet Differential Pair of Receiver Signal Negative", C2  ETH_RP  (in) "10/100M Ethernet Differential Pair of Receiver Signal Positive", D2  ETH_TN  (in) "10/100M Ethernet Differential Pair of Transmitter Signal Negative", D3  ETH_TP  (in) "10/100M Ethernet Differential Pair of Transmitter Signal Positive", J4  ETH_LED0  (in) "10/100M Ethernet LED0 Control Driven Active When Linked", K5  ETH_LED1  (in) "10/100M Ethernet LED1 Control Driven Active When Linked in 100 Base-TX and Blinking When Transmitting or Receiving Data"
part B pins: N17  PM_SPI_HLD  (in) "SPI Flash Hold", N18  PM_SPI_DO  (in) "SPI Flash Serial Data From Device (MISO)", P17  PM_SPI_WPZ  (in) "SPI Flash Write Protect", P18  PM_SPI_DI  (in) "SPI Flash Serial Data To Device (MOSI)", R17  PM_SPI_CK  (in) "SPI Flash Clock", R18  PM_SPI_CZ  (in) "SPI Flash Chip Select (Active Low)"
part C pins: G1  AUD_VAG  (in) "Audio Reference Voltage from 1/2 AVDD_AUD", G2  AUD_VRM_DAC  (in) "Audio Reference Voltage for DAC", G3  AUD_VRM_ADC  (in) "Audio Reference Voltage for ADC", H2  AUD_MICIN0  (in) "Audio Left Channel Microphone Positive Input", H3  AUD_MICCM0  (in) "Audio Left Channel Microphone Negative Input", J2  AUD_MICIN1  (in) "Audio Right Channel Microphone Positive Input", J3  AUD_MICCM1  (in) "Audio Right Channel Microphone Negative Input", K1  AUD_LINEOUT_L0  (in) "Audio Left Channel Line Output", K3  AUD_LINEOUT_R0  (in) "Audio Right Channel Line Output"
part D pins: B5  SPI_CZ  (in) "Master SPI Chip Select (Active Low)", C4  SPI_CK  (in) "Master SPI Serial Clock", D4  SPI_DO  (in) "Master SPI Serial Data From Device (MISO) / SDIO1 - 4x IO mode", D5  SPI_DI  (in) "Master SPI Serial Data To Device (MOSI) / SDIO0 - 4x IO mode", E5  SPI_WPZ  (in) "Master SPI Write Protect (Active Low) / SDIO2 - 4x IO mode", F5  SPI_HLD  (in) "Master SPI Hold input (Active Low) / SDIO3 - 4x IO mode"
part E pins: M2  PAD_IO[73]  (in) "DDR3 DRAM Memory Data Bus [22] DDR2 DRAM Memory Data Bus [17] LPDDR2 DRAM Memory Data Bus [24]", M3  PAD_IO[72]  (in) "DDR3 DRAM Memory Data Bus [20] DDR2 DRAM Memory Data Bus [20] LPDDR2 DRAM Memory Data Bus [28]", M4  PAD_IO[62]  (in) "DDR3 DRAM Memory Data Bus [27] DDR2 DRAM Memory Data Bus [30] LPDDR2 DRAM Memory Data Bus [11]", N2  PAD_IO[69]  (in) "DDR3 DRAM Memory Data Bus [16] DDR2 DRAM Input Data Mask [2] LPDDR2 DRAM Memory Data Bus [27]", N3  PAD_IO[71]  (in) "DDR3 DRAM Memory Data Bus [18] DDR2 DRAM Memory Data Bus [22] LPDDR2 DRAM Memory Data Bus [30]", N4  PAD_IO[60]  (in) "DDR3 DRAM Input Data Mask [3] DDR2 DRAM Input Data Mask [3] LPDDR2 DRAM Memory Data Bus [13]", N5  PAD_IO[57]  (in) "DDR3 DRAM Memory Data Bus [29] DDR2 DRAM Memory Data Bus [25] LPDDR2 DRAM Memory Data Bus [15]", P1  PAD_IO[65]  (in) "DDR3 DRAM Data Strobe Inverse [2] DDR2 DRAM Data Strobe [2] LPDDR2 DRAM Data Strobe Inverse [3]", P2  PAD_IO[64]  (in) "DDR3 DRAM Data Strobe [2] DDR2 DRAM Data Strobe Inverse [2] LPDDR2 DRAM Data Strobe [3]", P3  PAD_IO[67]  (in) "DDR3 DRAM Memory Data Bus [23] DDR2 DRAM Memory Data Bus [19] LPDDR2 DRAM Memory Data Bus [31]", P4  PAD_IO[58]  (in) "DDR3 DRAM Memory Data Bus [25] DDR2 DRAM Memory Data Bus [27] LPDDR2 DRAM Memory Data Bus [9]", P5  PAD_IO[52]  (in) "DDR3 DRAM Memory Data Bus [31] DDR2 DRAM Memory Data Bus [28] LPDDR2 DRAM Memory Data Bus [14]", R1  PAD_IO[70]  (in) "DDR3 DRAM Memory Data Bus [21] DDR2 DRAM Memory Data Bus [18] LPDDR2 DRAM Memory Data Bus [25]", R2  PAD_IO[68]  (in) "DDR3 DRAM Memory Data Bus [17] DDR2 DRAM Memory Data Bus [16] LPDDR2 DRAM Memory Data Bus [29]", R3  PAD_IO[61]  (in) "DDR3 DRAM Memory Data Bus [26] DDR2 DRAM Memory Data Bus [29] LPDDR2 DRAM Memory Data Bus [12]", R4  PAD_IO[55]  (in) "DDR3 DRAM Memory Data Bus [24] DDR2 DRAM Memory Data Bus [26] LPDDR2 DRAM Memory Data Bus [10]", R5  PAD_IO[53]  (in) "DDR3 DRAM Data Strobe Inverse [3] DDR2 DRAM Data Strobe [3] LPDDR2 DRAM Data Strobe Inverse [1]", R8  PAD_IO[33]  (in) "DDR3 DRAM Memory Data Bus [11] DDR2 DRAM Memory Data Bus [12] LPDDR2 DRAM Input Data Mask [0]", R9  PAD_IO[30]  (in) "DDR3 DRAM Memory Data Bus [15] DDR2 DRAM Memory Data Bus [9] LPDDR2 DRAM Memory Data Bus [6]", R10  PAD_IO[40]  (in) "DDR3 DRAM Memory Data Bus [9] DDR2 DRAM Input Data Mask [1] LPDDR2 DRAM Memory Data Bus [7]", R11  PAD_IO[36]  (in) "DDR3 DRAM Memory Data Bus [12] DDR2 DRAM Memory Data Bus [8] LPDDR2 DRAM Memory Data Bus [3]", R12  PAD_IO[34]  (in) "DDR3 DRAM Memory Data Bus [14] DDR2 DRAM Memory Data Bus [15] LPDDR2 DRAM Memory Data Bus [4]", T1  PAD_IO[63]  (in) "DDR3 DRAM Input Data Mask [2] DDR2 DRAM Memory Data Bus [23] LPDDR2 DRAM Memory Data Bus [26]", T2  PAD_IO[66]  (in) "DDR3 DRAM Memory Data Bus [19] DDR2 DRAM Memory Data Bus [21] LPDDR2 DRAM Input Data Mask [3]", T4  PAD_IO[59]  (in) "DDR3 DRAM Memory Data Bus [30] DDR2 DRAM Memory Data Bus [24] LPDDR2 DRAM Memory Data Bus [8]", T5  PAD_IO[56]  (in) "DDR3 DRAM Memory Data Bus [28] DDR2 DRAM Memory Data Bus [31] LPDDR2 DRAM Input Data Mask [1]", T6  PAD_IO[54]  (in) "DDR3 DRAM Data Strobe [3] DDR2 DRAM Data Strobe Inverse [3] LPDDR2 DRAM Data Strobe [1]", T7  PAD_IO[37]  (in) "DDR3 DRAM Memory Data Bus [13] DDR2 DRAM Memory Data Bus [14] LPDDR2 DRAM Memory Data Bus [5]", T8  PAD_IO[38]  (in) "DDR3 DRAM Data Strobe Inverse [1] DDR2 DRAM Data Strobe [1] LPDDR2 DRAM Data Strobe Inverse [0]", T9  PAD_IO[39]  (in) "DDR3 DRAM Data Strobe [1] DDR2 DRAM Data Strobe Inverse [1] LPDDR2 DRAM Data Strobe [0]", T10  PAD_IO[31]  (in) "DDR3 DRAM Memory Data Bus [8] DDR2 DRAM Memory Data Bus [10] LPDDR2 DRAM Memory Data Bus [0]", T11  PAD_IO[35]  (in) "DDR3 DRAM Input Data Mask [1] DDR2 DRAM Memory Data Bus [11] LPDDR2 DRAM Memory Data Bus [1]", T12  PAD_IO[32]  (in) "DDR3 DRAM Memory Data Bus [10] DDR2 DRAM Memory Data Bus [13] LPDDR2 DRAM Memory Data Bus [2]", T13  PAD_IO[28]  (in) "DRAM Memory Negative Differential Clock Signal", T14  PAD_IO[29]  (in) "DRAM Memory Positive Differential Clock Signal", T15  PAD_IO[1]  (in) "DRAM Chip Selection 0 Signal", U1  PAD_IO[47]  (in) "DDR3 DRAM Memory Data Bus [4] DDR2 DRAM Memory Data Bus [4] LPDDR2 DRAM Input Data Mask [2]", U2  PAD_IO[46]  (in) "DDR3 DRAM Memory Data Bus [6] DDR2 DRAM Memory Data Bus [1] LPDDR2 DRAM Memory Data Bus [21]", U3  PAD_IO[45]  (in) "DDR3 DRAM Memory Data Bus [0] DDR2 DRAM Input Data Mask [0] LPDDR2 DRAM Memory Data Bus [18]", U5  PAD_IO[48]  (in) "DDR3 DRAM Memory Data Bus [3] DDR2 DRAM Memory Data Bus [5] LPDDR2 DRAM Memory Data Bus [19]", U6  PAD_IO[19]  (in) "DDR3 DRAM Memory Address [15] DDR2 DRAM Memory Address [0] LPDDR2 NC", U7  PAD_IO[26]  (in) "DDR3 DRAM Memory Address [6] DDR2 DRAM Memory Address [6] LPDDR2 NC", U9  PAD_IO[18]  (in) "DDR3 DRAM Memory Address [1] DDR2 Column Address Strobe; Active Low LPDDR2 NC", U10  PAD_IO[14]  (in) "DDR3 Write Enable; Active Low DDR2 DRAM Memory Bank Address [1] LPDDR2 NC", U12  PAD_IO[11]  (in) "DDR3 DRAM Memory Address [3] DDR2 DRAM Memory Address [5] LPDDR2 NC", U13  PAD_IO[9]  (in) "DDR3 DRAM Memory Address [9] DDR2 DRAM Memory Address [7] LPDDR2 NC", U15  PAD_IO[0]  (in) "DDR3 DRAM Memory On-Die Termination DDR2 DRAM Memory On-Die Termination LPDDR2 NC", V1  PAD_IO[51]  (in) "DDR3 DRAM Memory Data Bus [2] DDR2 DRAM Memory Data Bus [6] LPDDR2 DRAM Memory Data Bus [22]", V2  PAD_IO[49]  (in) "DDR3 DRAM Data Strobe [0] DDR2 DRAM Data Strobe Inverse [0] LPDDR2 DRAM Data Strobe [2]", V3  PAD_IO[41]  (in) "DDR3 DRAM Memory Data Bus [7] DDR2 DRAM Memory Data Bus [3] LPDDR2 DRAM Memory Data Bus [20]", V4  PAD_IO[44]  (in) "DDR3 DRAM Memory Data Bus [1] DDR2 DRAM Memory Data Bus [0] LPDDR2 DRAM Memory Data Bus [17]", V5  PAD_IO[23]  (in) "DDR3 DRAM Memory Address [10] DDR2 Row Address Strobe; Active Low LPDDR2 NC", V6  PAD_IO[21]  (in) "DDR3 DRAM Memory Bank Address [1] DDR2 DRAM Memory Address [2] LPDDR2 DRAM Memory Command/Address [1]", V7  PAD_IO[20]  (in) "DDR3 DRAM Memory Address [11] DDR2 DRAM Memory Address [13] LPDDR2 DRAM Memory Command/Address [4]", V8  PAD_IO[17]  (in) "DDR3 DRAM Memory Address [14] DDR2 DRAM Memory Address [11] LPDDR2 DRAM Memory Command/Address [2]", V9  PAD_IO[13]  (in) "DDR3 DRAM Memory Address [12] DDR2 Write Enable; Active Low LPDDR2 DRAM Memory Command/Address [6]", V10  PAD_IO[12]  (in) "DDR3 DRAM Memory Bank Address [0] DDR2 DRAM Memory Address [1] LPDDR2 DRAM Memory Command/Address [9]", V11  PAD_IO[10]  (in) "DDR3 DRAM Memory Address [0] DDR2 DRAM Memory Address [10] LPDDR2 DRAM Memory Command/Address [8]", V12  PAD_IO[8]  (in) "DDR3 DRAM Memory Address [2] DDR2 DRAM Memory Address [3] LPDDR2 NC", V13  PAD_IO[4]  (in) "DDR3 DRAM Memory Address [13] DDR2 DRAM Memory Address [12] LPDDR2 NC", V14  PAD_IO[3]  (in) "DDR3 DRAM Memory Reset; Active Low DDR2 NC LPDDR2 NC", V15  PAD_IO[24]  (in) "DRAM Clock Enable Control Signal", W2  PAD_IO[50]  (in) "DDR3 DRAM Data Strobe Inverse [0] DDR2 DRAM Data Strobe [0] LPDDR2 DRAM Data Strobe Inverse [2]", W3  PAD_IO[43]  (in) "DDR3 DRAM Memory Data Bus [5] DDR2 DRAM Memory Data Bus [2] LPDDR2 DRAM Memory Data Bus [16]", W4  PAD_IO[42]  (in) "DDR3 DRAM Input Data Mask [0] DDR2 DRAM Memory Data Bus [7] LPDDR2 DRAM Memory Data Bus [23]", W6  PAD_IO[27]  (in) "DDR3 DRAM Memory Address [4] DDR2 DRAM Memory Address [4] LPDDR2 DRAM Memory Command/Address [0]", W7  PAD_IO[22]  (in) "DDR3 DRAM Memory Address [8] DDR2 DRAM Memory Address [8] LPDDR2 DRAM Memory Command/Address [3]", W9  PAD_IO[16]  (in) "DDR3 Column Address Strobe; Active Low DDR2 DRAM Memory Bank Address [0] LPDDR2 DRAM Memory Command/Address [5]", W10  PAD_IO[15]  (in) "DDR3 DRAM Memory Bank Address [2] DDR2 DRAM Memory Bank Address [2] LPDDR2 DRAM Memory Command/Address [7]", W12  PAD_IO[6]  (in) "DDR3 DRAM Memory Address [5] DDR2 DRAM Memory Address [9] LPDDR2 NC", W13  PAD_IO[7]  (in) "DDR3 DRAM Memory Address [7] DDR2 DRAM Memory Address [14] LPDDR2 NC", W14  PAD_IO[5]  (in) "DDR3 Row Address Strobe; Active Low DDR2 NC LPDDR2 NC", W15  PAD_IO[2]  (in) "DRAM Chip Selection 1 Signal"
part F pins: E18  FUART_CTS  (in) "Fast UART Clear to Send", F17  FUART_RTS  (in) "Fast UART Request to Send", F18  FUART_RX  (in) "Fast UART Receive Data Input", G17  FUART_TX  (in) "Fast UART Transmit Data Output", U16  PM_UART_RX  (in) "Debug UART Receive Data Input with Pull Up Resistor / Slave I2C Serial Clock", V16  PM_UART_TX  (in) "Debug UART Transmit Data Output with Pull Up Resistor / Slave I2C Serial Data", V17  PM_UART_TX1  (in) "PM_UART1 Transmit Data Output with Pull Up Resistor in Power Manage group domain", W17  PM_UART_RX1  (in) "PM_UART1 Receive Data Input with Pull Up Resistor in Power Manage group domain"
part G pins: C9  GPIO12  (in) "General Purpose Input/Output 12", C10  GPIO11  (in) "General Purpose Input/Output 11", D9  GPIO13  (in) "General Purpose Input/Output 13", D10  GPIO10  (in) "General Purpose Input/Output 10", E9  GPIO14  (in) "General Purpose Input/Output 14", E10  GPIO9  (in) "General Purpose Input/Output 9", F9  GPIO15  (in) "General Purpose Input/Output 15", F10  GPIO8  (in) "General Purpose Input/Output 8"
part H pins: E4  I2S0_MCLK  (in) "I2S Master Clock", F4  I2S0_WCK  (in) "I2S Word Clock", G4  I2S0_DI  (in) "I2S Data Input", G5  I2S0_BCK  (in) "I2S Bit Clock", H4  I2S0_DO  (in) "I2S Data Output"
part I pins: A8  SR1_IO10  (in) "Sensor General Purpose Input/Output 10 (Group 1)", A9  SR1_IO08  (in) "Sensor General Purpose Input/Output 8 (Group 1)", A10  SR1_IO06  (in) "Sensor General Purpose Input/Output 6 (Group 1)", A11  SR1_IO04  (in) "Sensor General Purpose Input/Output 4 (Group 1)", A12  SR1_IO02  (in) "Sensor General Purpose Input/Output 2 (Group 1)", A13  SR0_IO10  (in) "Sensor General Purpose Input/Output 10", A14  SR0_IO08  (in) "Sensor General Purpose Input/Output 8", A15  SR0_IO06  (in) "Sensor General Purpose Input/Output 6", A16  SR0_IO04  (in) "Sensor General Purpose Input/Output 4", A17  SR0_IO02  (in) "Sensor General Purpose Input/Output 2", A18  SR0_IO00  (in) "Sensor General Purpose Input/Output 0", B8  SR1_IO11  (in) "Sensor General Purpose Input/Output 11 (Group 1)", B9  SR1_IO09  (in) "Sensor General Purpose Input/Output 9 (Group 1)", B10  SR1_IO07  (in) "Sensor General Purpose Input/Output 7 (Group 1)", B11  SR1_IO05  (in) "Sensor General Purpose Input/Output 5 (Group 1)", B12  SR1_IO03  (in) "Sensor General Purpose Input/Output 3 (Group 1)", B13  SR0_IO11  (in) "Sensor General Purpose Input/Output 11", B14  SR0_IO09  (in) "Sensor General Purpose Input/Output 9", B15  SR0_IO07  (in) "Sensor General Purpose Input/Output 7", B16  SR0_IO05  (in) "Sensor General Purpose Input/Output 5", B17  SR0_IO03  (in) "Sensor General Purpose Input/Output 3", B18  SR0_IO01  (in) "Sensor General Purpose Input/Output 1", B19  SR0_IO17  (in) "Sensor General Purpose Input/Output 17", C12  SR1_IO19  (in) "Sensor General Purpose Input/Output 19 (Group 1)", C13  SR1_IO18  (in) "Sensor General Purpose Input/Output 18 (Group 1)", C16  SR1_IO00  (in) "Sensor General Purpose Input/Output 0 (Group 1)", C17  SR1_IO12  (in) "Sensor General Purpose Input/Output 12 (Group 1)", C18  SR0_IO15  (in) "Sensor General Purpose Input/Output 15", C19  SR0_IO16  (in) "Sensor General Purpose Input/Output 16", D12  SR1_IO16  (in) "Sensor General Purpose Input/Output 16 (Group 1)", D13  SR1_IO15  (in) "Sensor General Purpose Input/Output 15 (Group 1)", D16  SR1_IO01  (in) "Sensor General Purpose Input/Output 1 (Group 1)", D17  SR0_IO14  (in) "Sensor General Purpose Input/Output 14", D18  SR0_IO18  (in) "Sensor General Purpose Input/Output 18", D19  SR0_IO19  (in) "Sensor General Purpose Input/Output 19", E12  SR1_IO17  (in) "Sensor General Purpose Input/Output 17 (Group 1)", E13  SR1_IO14  (in) "Sensor General Purpose Input/Output 14 (Group 1)", E17  SR0_IO12  (in) "Sensor General Purpose Input/Output 12", E19  SR0_IO13  (in) "Sensor General Purpose Input/Output 13", F13  SR1_IO13  (in) "Sensor General Purpose Input/Output 13 (Group 1)"
part J pins: H5  I2C0_SCL  (in) "Non-PM Domain I2C 0 Master I2C Clock", J5  I2C0_SDA  (in) "Non-PM Domain I2C 0 Master I2C Data", U17  PM_I2CM_SCL  (in) "PM Domain I2C Master I2C Clock", W18  PM_I2CM_SDA  (in) "PM Domain I2C Master I2C Data"
part K pins: R16  PM_GPIO7  (in) "Power Manage Group General Purpose Input/Output 7", R19 PM_GPIO8  (in) "Power Manage Group General Purpose Input/Output 8", T17  PM_GPIO1  (in) "Power Manage Group General Purpose Input/Output 1", T18  PM_GPIO5  (in) "Power Manage Group General Purpose Input/Output 5", T19  PM_GPIO6  (in) "Power Manage Group General Purpose Input/Output 6", U18  PM_GPIO3  (in) "Power Manage Group General Purpose Input/Output 3", U19  PM_GPIO4  (in) "Power Manage Group General Purpose Input/Output 4", V18  PM_GPIO0  (in) "Power Manage Group General Purpose Input/Output 0", V19  PM_GPIO2  (in) "Power Manage Group General Purpose Input/Output 2"
part L pins: A7 GND  (in) "Ground", C3 GND  (in) "Ground", C6 GND  (in) "Ground", C7 GND  (in) "Ground", C8 GND  (in) "Ground", C14 GND  (in) "Ground", D6 GND  (in) "Ground", D7 GND  (in) "Ground", D14 GND  (in) "Ground", E2 GND  (in) "Ground", E6 GND  (in) "Ground", E11  AVDD_XTAL  (in) "Analog Power for XTAL", E15  AVDD1P2_MIPI  (in) "LDO Output for MIPI TX (0.1uF Cap To GND)", F1 GND  (in) "Ground", F3 GND  (in) "Ground", F7 VDD  (in) "Digital Core Power", F8  VDDP_0  (in) "Digital Input/Output Power for Domain 0", F11 GND  (in) "Ground", F14 GND  (in) "Ground", F16  VDDP_2A  (in) "Digital Input/Output Power for Domain 2A (Sensor IO Group 0 Power)", G6  AVDD_ETH  (in) "Analog Power for Ethernet", G7 VDD  (in) "Digital Core Power", G8 VDD  (in) "Digital Core Power", G9 GND  (in) "Ground", G10 GND  (in) "Ground", G11 GND  (in) "Ground", G13 GND  (in) "Ground", G14  AVDDL_MIPI  (in) "Analog LV Power for MIPI RX (could be shared with VDD)", G16  VDDP_2B  (in) "Digital Input/Output Power for Domain 2B (Sensor IO Group 1 Power)", G18  AVSS_XTAL_RTC  (in) "Analog Ground for RTC Crystal", H6 GND  (in) "Ground", H8 VDD  (in) "Digital Core Power", H9 VDD  (in) "Digital Core Power", H10 VDD  (in) "Digital Core Power", H11 VDD  (in) "Digital Core Power", H12 VDD  (in) "Digital Core Power", H13 VDD  (in) "Digital Core Power", H14 VDD  (in) "Digital Core Power", H16  VDDP_1  (in) "Digital Input/Output Power for Domain 1", H19  AVDD_RTC  (in) "Analog Power for RTC", J6 GND  (in) "Ground", J8 VDD  (in) "Digital Core Power", J9 VDD  (in) "Digital Core Power", J10 VDD  (in) "Digital Core Power", J11 VDD  (in) "Digital Core Power", J12 VDD  (in) "Digital Core Power", J13 VDD  (in) "Digital Core Power", J14 GND  (in) "Ground", J15 GND  (in) "Ground", J16 GND  (in) "Ground", K2 GND  (in) "Ground", K4 GND  (in) "Ground", K6 GND  (in) "Ground", K7  AVDD3P3_USB  (in) "Analog Power for USB2.0", K8  AVDD_USB  (in) "Analog Power for USB", K9 VDD  (in) "Digital Core Power", K10 VDD  (in) "Digital Core Power", K11 VDD  (in) "Digital Core Power", K12 VDD  (in) "Digital Core Power", K13 GND  (in) "Ground", K14 GND  (in) "Ground", K15 GND  (in) "Ground", L2 GND  (in) "Ground", L3 GND  (in) "Ground", L6  AVDD_AUD  (in) "Analog Power for Audio", L7  AVDD_PLL  (in) "Analog Power for PLL", L8  DVDD_DDR_RX  (in) "Digital Power for DDR RX LDO (0.1uF CAP to GND)", L10 GND  (in) "Ground", L11 GND  (in) "Ground", L12 GND  (in) "Ground", L13 GND  (in) "Ground", L15 GND  (in) "Ground", M5 GND  (in) "Ground", M6 GND  (in) "Ground", M7 VDDIO_DATA  (in) "IO Power for DDR Data", M8 VDDIO_DATA  (in) "IO Power for DDR Data", M10  DVDD_DDR  (in) "Digital Power for DDR TX", M12 GND  (in) "Ground", M13 GND  (in) "Ground", M15  AVDD_NODIE  (in) "Analog Power for PM Domain", M16  DVDD_NODIE  (in) "PM Domain LDO Output (1uF Cap to GND)", N1 GND  (in) "Ground", N7 VDDIO_DATA  (in) "IO Power for DDR Data", N8  VDDIO_DATA  (in) "IO Power for DDR Data", N9 GND  (in) "Ground", N10  VDDIO_MCLK  (in) "IO Power for DDR Clock", N11 VDDIO_CMD  (in) "IO Power for DDR Command", N12  VDDIO_CMD  (in) "IO Power for DDR Command", N13 GND  (in) "Ground", N15 GND  (in) "Ground", N16  AVDD_PM_SPI  (in) "Analog Power for PM SPI Domain", P7 GND  (in) "Ground", P8 GND  (in) "Ground", P9 GND  (in) "Ground", P12 GND  (in) "Ground", P13 GND  (in) "Ground", P14 GND  (in) "Ground", R6 GND  (in) "Ground", R7 GND  (in) "Ground", R13 GND  (in) "Ground", R14 GND  (in) "Ground", R15 GND  (in) "Ground", T3 GND  (in) "Ground", T16 GND  (in) "Ground", U4 GND  (in) "Ground", U8 GND  (in) "Ground", U11 GND  (in) "Ground", U14  GND  (in) "Ground"
part M pins: L19  SAR_GPIO3  (in) "General Purpose Input/Output or Muxed to SARADC Input Channel 3", M17  SAR_GPIO2  (in) "General Purpose Input/Output or Muxed to SARADC Input Channel 2", M18  SAR_GPIO0  (in) "General Purpose Input/Output or Muxed to SARADC Input Channel 0", M19  SAR_GPIO1  (in) "General Purpose Input/Output or Muxed to SARADC Input Channel 1"
part N pins: A2  SD0_CMD  (in) "SD 2.0 Command", A3  SD0_D0  (in) "SD 2.0 Data Bus 0", A4  SD0_CDZ  (in) "Power Manage SD 2.0 Card Detect", B1  SD0_D2  (in) "SD 2.0 Data Bus 2", B2  SD0_D3  (in) "SD 2.0 Data Bus 3", B3  SD0_CLK  (in) "SD 2.0 Clock", B4  SD0_D1  (in) "SD 2.0 Data Bus 1", C5  SD0_GPIO0  (in) "SD0 General Purpose Input/Output 0", E3  USB2_DM  (in) "USB 2.0 Differential Pair, Negative", F2  USB2_DP  (in) "USB 2.0 Differential Pair, Positive"
part O pins: A6  XTAL_OUT  (in) "24MHz Crystal Output", B6  SE_XTAL_OUT  (in) "24MHz Clock Output", B7  XTAL_IN  (in) "24MHz Crystal Input", H17  XTAL_OUT_32K  (in) "32.768KHz Crystal Output", H18  XTAL_IN_32K  (in) "32.768KHz Crystal Input", J17  RESET  (in) "System Reset (Active High)"
part P pins: J18  NC_0  (in) "RTC Test Pin (NC)", K17  NC_2  (in) "RTC Test Pin (NC)", K18  NC_1  (in) "RTC Test Pin (NC)", L17  NC_5  (in) "RTC Test Pin (NC)", L18  NC_4  (in) "RTC Test Pin (NC)"
part A text: 10/100M Ethernet Interface
part B text: 8051 SPI Flash Interface
part C text: Audio Interface
part D text: CA7 SPI Flash Interface
part E text: DDR Interface
part F text: UART Interface
part G text: TextGPIO Interface
part H text: I2S Interface
part I text: Image Sensor Interface
part J text: I2C Interface
part K text: PM GPIO Interface
part M text: SAR ADC Interface
part N text: USB2.0 + SD 2.0 Card Interface
part O text: System Interface
part P text: Test Interface